# Altium footprint library 2019-09-07_18-38-47.PcbLib: 3 footprints
Each footprint in its own frame and in the unit in brackets; x right, y up, seen from the top. Pads: shape width x height; smd on the part's side, far side on the other; paste and mask are expansions set on the pad; w line width, h text height; cw(c..) or ccw(c..) is an arc to the next point about the centre after c.
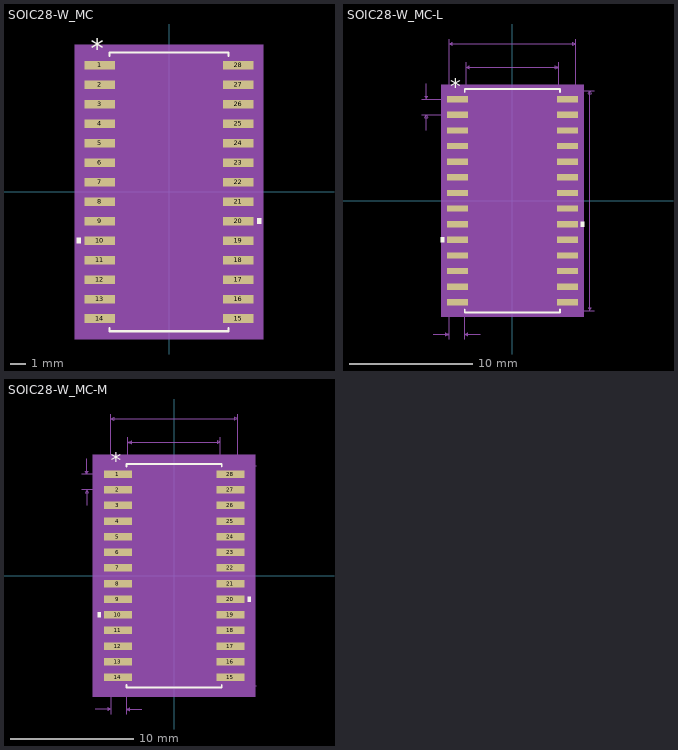
[diagram p0: the footprints below, top view; thin cyan lines are the x and y axes]

## SOIC28-W_MC [mil]
pads (28):
  rect 78x22 smd paste+0 mask+0: 1(-178,325) 2(-178,275) 3(-178,225) 4(-178,175) 5(-178,125) 6(-178,75) 7(-178,25) 8(-178,-25) 9(-178,-75) 10(-178,-125) 11(-178,-175) 12(-178,-225) 13(-178,-275) 14(-178,-325) 15(178,-325) 16(178,-275) 17(178,-225) 18(178,-175) 19(178,-125) 20(178,-75) 21(178,-25) 22(178,25) 23(178,75) 24(178,125) 25(178,175) 26(178,225) 27(178,275) 28(178,325)
Top Overlay:
  region: 227,-67.5 237,-67.5 237,-82.5 227,-82.5
  region: -227,-117.5 -237,-117.5 -237,-132.5 -227,-132.5
  lines w6: -152.5,-349.1 -152.5,-357.5 152.5,-357.5 152.5,-349.1 ; -152.5,349.1 -152.5,357.5 152.5,357.5 152.5,349.1
  text "*" at -200.5,342 h50
Mechanical 5:
  region: 242,-377.5 -242,-377.5 -242,377.5 242,377.5
Mechanical 13:
  lines w0: -12,352.5 ccw(c0,352.5) 12,352.5
  lines w1: -203,-335 -147.5,-335 -147.5,-315 -203,-315 -203,-335 ; -203,-285 -147.5,-285 -147.5,-265 -203,-265 -203,-285 ; -203,-235 -147.5,-235 -147.5,-215 -203,-215 -203,-235 ; -203,-185 -147.5,-185 -147.5,-165 -203,-165 -203,-185 ; -203,-135 -147.5,-135 -147.5,-115 -203,-115 -203,-135 ; -203,-85 -147.5,-85 -147.5,-65 -203,-65 -203,-85 ; -203,-35 -147.5,-35 -147.5,-15 -203,-15 -203,-35 ; -203,15 -147.5,15 -147.5,35 -203,35 -203,15 ; -203,65 -147.5,65 -147.5,85 -203,85 -203,65 ; -203,115 -147.5,115 -147.5,135 -203,135 -203,115 ; -203,165 -147.5,165 -147.5,185 -203,185 -203,165 ; -203,215 -147.5,215 -147.5,235 -203,235 -203,215 ; -203,265 -147.5,265 -147.5,285 -203,285 -203,265 ; -203,315 -147.5,315 -147.5,335 -203,335 -203,315 ; -147.5,-352.5 -147.5,352.5 147.5,352.5 147.5,-352.5 -147.5,-352.5 ; 147.5,-335 203,-335 203,-315 147.5,-315 147.5,-335 ; 147.5,-285 203,-285 203,-265 147.5,-265 147.5,-285 ; 147.5,-235 203,-235 203,-215 147.5,-215 147.5,-235 ; 147.5,-185 203,-185 203,-165 147.5,-165 147.5,-185 ; 147.5,-135 203,-135 203,-115 147.5,-115 147.5,-135 ; 147.5,-85 203,-85 203,-65 147.5,-65 147.5,-85 ; 147.5,-35 203,-35 203,-15 147.5,-15 147.5,-35 ; 147.5,15 203,15 203,35 147.5,35 147.5,15 ; 147.5,65 203,65 203,85 147.5,85 147.5,65 ; 147.5,115 203,115 203,135 147.5,135 147.5,115 ; 147.5,165 203,165 203,185 147.5,185 147.5,165 ; 147.5,215 203,215 203,235 147.5,235 147.5,215 ; 147.5,265 203,265 203,285 147.5,285 147.5,265 ; 147.5,315 203,315 203,335 147.5,335 147.5,315
  text "*" at -145,299.5 h50
Mechanical 15:
  region: -157.5,-346 -227,-346 -227,346 -157.5,346 -157.5,362.5 157.5,362.5 157.5,346 227,346 227,-346 157.5,-346 157.5,-362.5 -157.5,-362.5
  lines w6: -227,-346 -157.5,-346 -157.5,-362.5 157.5,-362.5 157.5,-346 227,-346 227,346 157.5,346 157.5,362.5 -157.5,362.5 -157.5,346 -227,346 -227,-346
3D body: height 104.09, standoff 0, extent -202.99,-352.51 203,352.53
3D body: height 104.09, standoff 0, extent -202.99,-352.51 202.99,352.53
3D body: height 104.09, standoff 0, extent -202.99,-352.51 203,352.53
3D body: height 10, standoff 0, extent 0,0 10,10

## SOIC28-W_MC-L [mil]
pads (28):
  rect 66x20 smd paste+0 mask+0: 1(-176,325) 2(-176,275) 3(-176,225) 4(-176,175) 5(-176,125) 6(-176,75) 7(-176,25) 8(-176,-25) 9(-176,-75) 10(-176,-125) 11(-176,-175) 12(-176,-225) 13(-176,-275) 14(-176,-325) 15(176,-325) 16(176,-275) 17(176,-225) 18(176,-175) 19(176,-125) 20(176,-75) 21(176,-25) 22(176,25) 23(176,75) 24(176,125) 25(176,175) 26(176,225) 27(176,275) 28(176,325)
Top Overlay:
  region: 219,-67.5 229,-67.5 229,-82.5 219,-82.5
  region: -219,-117.5 -229,-117.5 -229,-132.5 -219,-132.5
  lines w6: -152.5,-348.1 -152.5,-357.5 152.5,-357.5 152.5,-348.1 ; -152.5,348.1 -152.5,357.5 152.5,357.5 152.5,348.1
  text "*" at -198.5,340 h50
Mechanical 5:
  region: 228,-371.5 -228,-371.5 -228,371.5 228,371.5
Mechanical 7:
  lines w1: -291,275 -176,275 ; -291,325 -176,325 ; -276,225 -276,275 ; -276,375 -276,325 ; -253,-427.5 -203,-427.5 ; -203,-442.5 -203,0 -203,517.5 ; -153,-442.5 -153,0 ; -147.5,0 -147.5,442.5 ; -103,-427.5 -153,-427.5 ; 0,-352.5 262.5,-352.5 ; 0,352.5 262.5,352.5 ; 147.5,0 147.5,442.5 ; 203,0 203,517.5 ; -276,275 -271,265 -281,265 -276,275 ; -276,325 -271,335 -281,335 -276,325 ; -203,-427.5 -213,-432.5 -213,-422.5 -203,-427.5 ; -203,502.5 -193,497.5 -193,507.5 -203,502.5 ; -203,502.5 203,502.5 ; -153,-427.5 -143,-432.5 -143,-422.5 -153,-427.5 ; -147.5,427.5 -137.5,422.5 -137.5,432.5 -147.5,427.5 ; -147.5,427.5 147.5,427.5 ; 147.5,427.5 137.5,422.5 137.5,432.5 147.5,427.5 ; 203,502.5 193,497.5 193,507.5 203,502.5 ; 247.5,-352.5 252.5,-342.5 242.5,-342.5 247.5,-352.5 ; 247.5,-352.5 247.5,352.5 ; 247.5,352.5 252.5,342.5 242.5,342.5 247.5,352.5
  text "0.05in/1.27mm" at -259.25,-472.5 h25
  text "0.05in/1.27mm" at -458.5,287.5 h25
  text "0.705in/17.907mm" at 267.5,-12.5 h25
  text "0.406in/10.312mm" at -100,522.5 h25
  text "0.295in/7.493mm" at -93.75,447.5 h25
  text "Alt 2 Padstyle: OX90Y60D30P" at -337.5,-852.5 h50
  text "Alt 1 Padstyle: OX60Y90D30P" at -337.5,-792.5 h50
  text "Pin One Padstyle: RX66Y20D0T" at -350,-612.5 h50
  text "Default Padstyle: RX66Y20D0T" at -350,-552.5 h50
Mechanical 13:
  lines w0: -12,352.5 ccw(c0,352.5) 12,352.5
  lines w1: -203,-335 -147.5,-335 -147.5,-315 -203,-315 -203,-335 ; -203,-285 -147.5,-285 -147.5,-265 -203,-265 -203,-285 ; -203,-235 -147.5,-235 -147.5,-215 -203,-215 -203,-235 ; -203,-185 -147.5,-185 -147.5,-165 -203,-165 -203,-185 ; -203,-135 -147.5,-135 -147.5,-115 -203,-115 -203,-135 ; -203,-85 -147.5,-85 -147.5,-65 -203,-65 -203,-85 ; -203,-35 -147.5,-35 -147.5,-15 -203,-15 -203,-35 ; -203,15 -147.5,15 -147.5,35 -203,35 -203,15 ; -203,65 -147.5,65 -147.5,85 -203,85 -203,65 ; -203,115 -147.5,115 -147.5,135 -203,135 -203,115 ; -203,165 -147.5,165 -147.5,185 -203,185 -203,165 ; -203,215 -147.5,215 -147.5,235 -203,235 -203,215 ; -203,265 -147.5,265 -147.5,285 -203,285 -203,265 ; -203,315 -147.5,315 -147.5,335 -203,335 -203,315 ; -147.5,-352.5 -147.5,352.5 147.5,352.5 147.5,-352.5 -147.5,-352.5 ; 147.5,-335 203,-335 203,-315 147.5,-315 147.5,-335 ; 147.5,-285 203,-285 203,-265 147.5,-265 147.5,-285 ; 147.5,-235 203,-235 203,-215 147.5,-215 147.5,-235 ; 147.5,-185 203,-185 203,-165 147.5,-165 147.5,-185 ; 147.5,-135 203,-135 203,-115 147.5,-115 147.5,-135 ; 147.5,-85 203,-85 203,-65 147.5,-65 147.5,-85 ; 147.5,-35 203,-35 203,-15 147.5,-15 147.5,-35 ; 147.5,15 203,15 203,35 147.5,35 147.5,15 ; 147.5,65 203,65 203,85 147.5,85 147.5,65 ; 147.5,115 203,115 203,135 147.5,135 147.5,115 ; 147.5,165 203,165 203,185 147.5,185 147.5,165 ; 147.5,215 203,215 203,235 147.5,235 147.5,215 ; 147.5,265 203,265 203,285 147.5,285 147.5,265 ; 147.5,315 203,315 203,335 147.5,335 147.5,315
  text "*" at -145,299.5 h50
Mechanical 15:
  region: -151.5,-339 -213,-339 -213,339 -151.5,339 -151.5,356.5 151.5,356.5 151.5,339 213,339 213,-339 151.5,-339 151.5,-356.5 -151.5,-356.5
  lines w6: -213,-339 -151.5,-339 -151.5,-356.5 151.5,-356.5 151.5,-339 213,-339 213,339 151.5,339 151.5,356.5 -151.5,356.5 -151.5,339 -213,339 -213,-339
3D body: height 104.09, standoff 0, extent -202.99,-357.51 203,347.53
3D body: height 10, standoff 0, extent 0,0 10,10

## SOIC28-W_MC-M [mil]
pads (28):
  rect 90x24 smd paste+0 mask+0: 1(-180,325) 2(-180,275) 3(-180,225) 4(-180,175) 5(-180,125) 6(-180,75) 7(-180,25) 8(-180,-25) 9(-180,-75) 10(-180,-125) 11(-180,-175) 12(-180,-225) 13(-180,-275) 14(-180,-325) 15(180,-325) 16(180,-275) 17(180,-225) 18(180,-175) 19(180,-125) 20(180,-75) 21(180,-25) 22(180,25) 23(180,75) 24(180,125) 25(180,175) 26(180,225) 27(180,275) 28(180,325)
Top Overlay:
  region: -235,-117.5 -245,-117.5 -245,-132.5 -235,-132.5
  region: 235,-67.5 245,-67.5 245,-82.5 235,-82.5
  lines w6: -152.5,-350.1 -152.5,-357.5 152.5,-357.5 152.5,-350.1 ; -152.5,350.1 -152.5,357.5 152.5,357.5 152.5,350.1
  text "*" at -202.5,344 h50
Mechanical 5:
  region: 260,-387.5 -260,-387.5 -260,387.5 260,387.5
Mechanical 7:
  lines w1: -295,275 -180,275 ; -295,325 -180,325 ; -280,225 -280,275 ; -280,375 -280,325 ; -253,-427.5 -203,-427.5 ; -203,-442.5 -203,0 -203,517.5 ; -153,-442.5 -153,0 ; -147.5,0 -147.5,442.5 ; -103,-427.5 -153,-427.5 ; 0,-352.5 262.5,-352.5 ; 0,352.5 262.5,352.5 ; 147.5,0 147.5,442.5 ; 203,0 203,517.5 ; -280,275 -285,265 -275,265 -280,275 ; -280,325 -285,335 -275,335 -280,325 ; -203,-427.5 -213,-422.5 -213,-432.5 -203,-427.5 ; -203,502.5 203,502.5 ; -203,502.5 -193,507.5 -193,497.5 -203,502.5 ; -153,-427.5 -143,-422.5 -143,-432.5 -153,-427.5 ; -147.5,427.5 147.5,427.5 ; -147.5,427.5 -137.5,432.5 -137.5,422.5 -147.5,427.5 ; 147.5,427.5 137.5,432.5 137.5,422.5 147.5,427.5 ; 203,502.5 193,507.5 193,497.5 203,502.5 ; 247.5,-352.5 247.5,352.5 ; 247.5,-352.5 242.5,-342.5 252.5,-342.5 247.5,-352.5 ; 247.5,352.5 242.5,342.5 252.5,342.5 247.5,352.5
  text "Default Padstyle: RX90Y24D0T" at -350,-552.5 h50
  text "Pin One Padstyle: RX90Y24D0T" at -350,-612.5 h50
  text "Alt 1 Padstyle: OX60Y90D30P" at -337.5,-792.5 h50
  text "Alt 2 Padstyle: OX90Y60D30P" at -337.5,-852.5 h50
  text "0.295in/7.493mm" at -93.75,447.5 h25
  text "0.406in/10.312mm" at -100,522.5 h25
  text "0.705in/17.907mm" at 267.5,-12.5 h25
  text "0.05in/1.27mm" at -462.5,287.5 h25
  text "0.05in/1.27mm" at -259.25,-472.5 h25
Mechanical 13:
  lines w0: -12,352.5 ccw(c0,352.5) 12,352.5
  lines w1: -203,-335 -203,-315 -147.5,-315 -147.5,-335 -203,-335 ; -203,-285 -203,-265 -147.5,-265 -147.5,-285 -203,-285 ; -203,-235 -203,-215 -147.5,-215 -147.5,-235 -203,-235 ; -203,-185 -203,-165 -147.5,-165 -147.5,-185 -203,-185 ; -203,-135 -203,-115 -147.5,-115 -147.5,-135 -203,-135 ; -203,-85 -203,-65 -147.5,-65 -147.5,-85 -203,-85 ; -203,-35 -203,-15 -147.5,-15 -147.5,-35 -203,-35 ; -203,15 -203,35 -147.5,35 -147.5,15 -203,15 ; -203,65 -203,85 -147.5,85 -147.5,65 -203,65 ; -203,115 -203,135 -147.5,135 -147.5,115 -203,115 ; -203,165 -203,185 -147.5,185 -147.5,165 -203,165 ; -203,215 -203,235 -147.5,235 -147.5,215 -203,215 ; -203,265 -203,285 -147.5,285 -147.5,265 -203,265 ; -203,315 -203,335 -147.5,335 -147.5,315 -203,315 ; -147.5,-352.5 147.5,-352.5 147.5,352.5 -147.5,352.5 -147.5,-352.5 ; 147.5,-335 147.5,-315 203,-315 203,-335 147.5,-335 ; 147.5,-285 147.5,-265 203,-265 203,-285 147.5,-285 ; 147.5,-235 147.5,-215 203,-215 203,-235 147.5,-235 ; 147.5,-185 147.5,-165 203,-165 203,-185 147.5,-185 ; 147.5,-135 147.5,-115 203,-115 203,-135 147.5,-135 ; 147.5,-85 147.5,-65 203,-65 203,-85 147.5,-85 ; 147.5,-35 147.5,-15 203,-15 203,-35 147.5,-35 ; 147.5,15 147.5,35 203,35 203,15 147.5,15 ; 147.5,65 147.5,85 203,85 203,65 147.5,65 ; 147.5,115 147.5,135 203,135 203,115 147.5,115 ; 147.5,165 147.5,185 203,185 203,165 147.5,165 ; 147.5,215 147.5,235 203,235 203,215 147.5,215 ; 147.5,265 147.5,285 203,285 203,265 147.5,265 ; 147.5,315 147.5,335 203,335 203,315 147.5,315
  text "*" at -145,299.5 h50
Mechanical 15:
  region: -167.5,-357 -245,-357 -245,357 -167.5,357 -167.5,372.5 167.5,372.5 167.5,357 245,357 245,-357 167.5,-357 167.5,-372.5 -167.5,-372.5
  lines w6: -245,-357 -245,357 -167.5,357 -167.5,372.5 167.5,372.5 167.5,357 245,357 245,-357 167.5,-357 167.5,-372.5 -167.5,-372.5 -167.5,-357 -245,-357
3D body: height 10, standoff 0, extent 0,0 10,10